# Altium footprint library ISS_PCB.PcbLib: 46 footprints (part 1 of 3)
Each footprint in its own frame and in the unit in brackets; x right, y up, seen from the top. Pads: shape width x height; smd on the part's side, far side on the other; paste and mask are expansions set on the pad; w line width, h text height; cw(c..) or ccw(c..) is an arc to the next point about the centre after c.
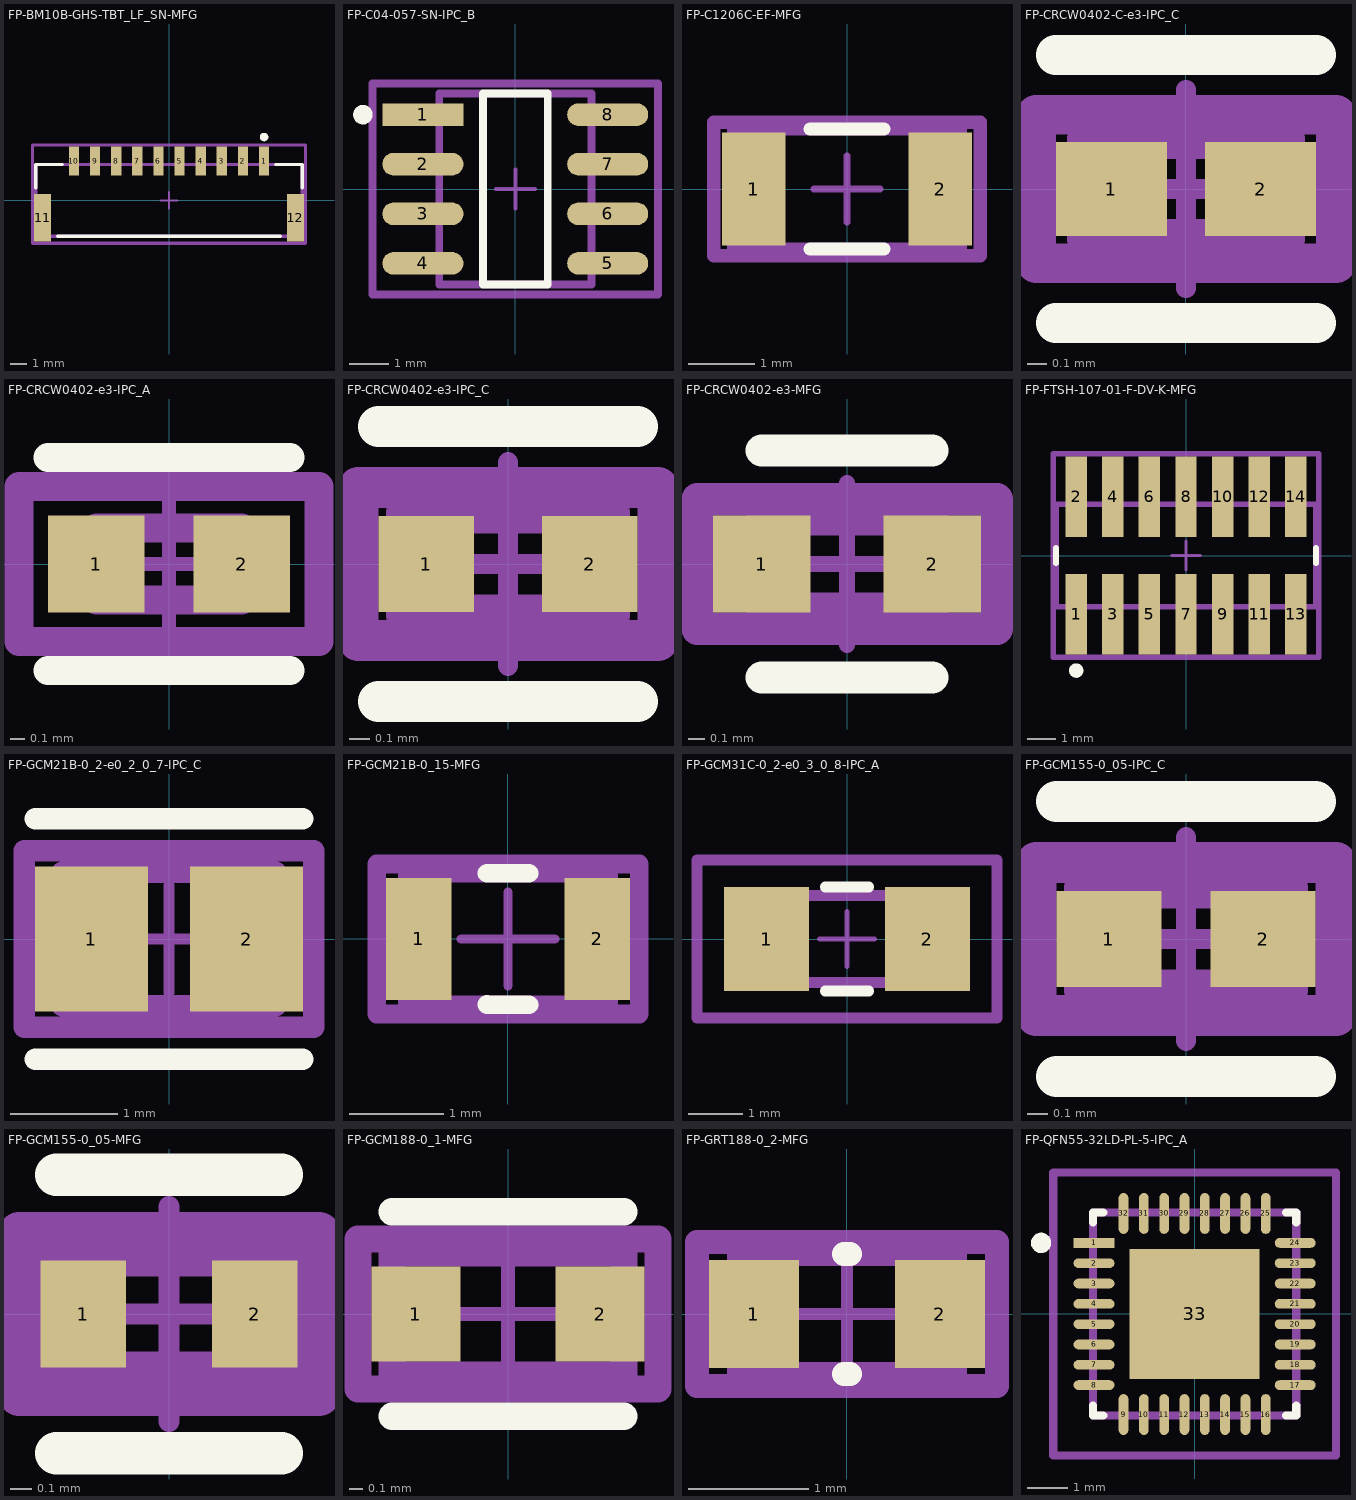
[diagram p0: the footprints below, top view; thin cyan lines are the x and y axes]

## FP-BM10B-GHS-TBT_LF_SN-MFG [mm]
pads (12):
  rect 0.6x1.7 smd paste+0 mask+0: 1(5.625,2.325) 2(4.375,2.325) 3(3.125,2.325) 4(1.875,2.325) 5(0.625,2.325) 6(-0.625,2.325) 7(-1.875,2.325) 8(-3.125,2.325) 9(-4.375,2.325) 10(-5.625,2.325)
  rect 1x2.8 smd paste+0 mask+0: 11(-7.475,-1.025) 12(7.475,-1.025)
Top Overlay:
  circle w0.25: c5.625,3.75 r0.125
  lines w0.2: -7.875,0.75 -7.875,2.125 -6.3,2.125 ; -6.6,-2.125 6.6,-2.125 ; 6.3,2.125 7.875,2.125 7.875,0.75
Top Courtyard:
  lines w0.2: -8.075,-2.525 -8.075,3.275 8.075,3.275 8.075,-2.525 -8.075,-2.525
Top Assembly:
  lines w0.2: -8.075,-2.525 -8.075,3.275 8.075,3.275 8.075,-2.525 -8.075,-2.525
  text ".Designator" at 0,0.563 h1
Top 3D Body:
  lines w0.2: -7.875,-2.125 -7.875,2.125 7.875,2.125 7.875,-2.125 -7.875,-2.125
Top Component Center:
  lines w0.1: -0.5,0 0.5,0 ; 0,-0.5 0,0.5
3D body "Conn_JST_BM10B-GHS-TBT_LF_SN_N_eec.STEP": height 0.25, standoff 0, extent -8.075,-2.525 8.075,3.275

## FP-C04-057-SN-IPC_B [mil]
pads (8):
  rect 81.77x22.92 smd paste+0 mask+0: 1(-93.21,75)
  rrect100% 81.77x22.92 smd paste+0 mask+0: 2(-93.21,25) 3(-93.21,-25) 4(-93.21,-75) 5(93.21,-75) 6(93.21,-25) 7(93.21,25) 8(93.21,75)
Top Overlay:
  circle w9.84: c-153.78,75 r4.92
  lines w7.87: -32.64,-96.46 -32.64,96.46 32.64,96.46 32.64,-96.46 -32.64,-96.46
Top Courtyard:
  lines w7.87: -143.94,-106.3 -143.94,106.3 143.94,106.3 143.94,-106.3 -143.94,-106.3
Top Assembly:
  lines w7.87: -143.94,-106.3 -143.94,106.3 143.94,106.3 143.94,-106.3 -143.94,-106.3
  text ".Designator" at 0,7.39 h39.37
Top 3D Body:
  lines w7.87: -76.77,-96.46 -76.77,96.46 76.77,96.46 76.77,-96.46 -76.77,-96.46
Top Component Center:
  lines w3.94: -19.69,0 19.69,0 ; 0,-19.69 0,19.69
3D body "IC_Microchip_24LC1025T-I-SN_eec.STEP": height 10, standoff 0, extent -143.94,-106.3 143.94,106.3

## FP-C1206C-EF-MFG [mm]
pads (2):
  rect 0.95x1.7 smd paste+0 mask+0: 1(-1.4,0) 2(1.4,0)
Top Overlay:
  lines w0.2: -0.55,-0.9 0.55,-0.9 ; -0.55,0.9 0.55,0.9
Top Courtyard:
  lines w0.2: -2,-1 2,-1 2,1 -2,1 -2,-1
Top Assembly:
  lines w0.2: -2,-1 2,-1 2,1 -2,1 -2,-1
  text ".Designator" at 0,0.188 h1
Top 3D Body:
  lines w0.2: -1.7,-0.9 1.7,-0.9 1.7,0.9 -1.7,0.9 -1.7,-0.9
Top Component Center:
  lines w0.1: -0.5,0 0.5,0 ; 0,-0.5 0,0.5
3D body "Cap_Kemet_C1206C102KGRACTU_eec.STEP": height 0.25, standoff 0, extent -2,-1 2,1

## FP-CRCW0402-C-e3-IPC_C [mm]
pads (2):
  rect 0.56x0.472 smd paste+0 mask+0: 1(-0.376,0) 2(0.376,0)
Top Overlay:
  lines w0.2: -0.656,-0.675 0.656,-0.675 ; -0.656,0.675 0.656,0.675
Top Courtyard:
  lines w0.2: -0.756,-0.375 0.756,-0.375 0.756,0.375 -0.756,0.375 -0.756,-0.375
Top Assembly:
  lines w0.2: -0.756,-0.375 0.756,-0.375 0.756,0.375 -0.756,0.375 -0.756,-0.375
  text ".Designator" at 0,0.188 h1
Top 3D Body:
  lines w0.2: -0.5,-0.25 0.5,-0.25 0.5,0.25 -0.5,0.25 -0.5,-0.25
Top Component Center:
  lines w0.1: -0.5,0 0.5,0 ; 0,-0.5 0,0.5
3D body "Res_Vishay_CRCW0402100KFKEDC_eec.STEP": height 0.25, standoff 0, extent -0.756,-0.375 0.756,0.375

## FP-CRCW0402-e3-IPC_A [mm]
pads (2):
  rect 0.668x0.672 smd paste+0 mask+0: 1(-0.502,0) 2(0.502,0)
Top Overlay:
  lines w0.2: -0.836,-0.736 0.836,-0.736 ; -0.836,0.736 0.836,0.736
Top Courtyard:
  lines w0.2: -1.036,-0.536 1.036,-0.536 1.036,0.536 -1.036,0.536 -1.036,-0.536
Top Assembly:
  lines w0.2: -1.036,-0.536 1.036,-0.536 1.036,0.536 -1.036,0.536 -1.036,-0.536
  text ".Designator" at 0,0.188 h1
Top 3D Body:
  lines w0.2: -0.5,-0.25 0.5,-0.25 0.5,0.25 -0.5,0.25 -0.5,-0.25
Top Component Center:
  lines w0.1: -0.5,0 0.5,0 ; 0,-0.5 0,0.5
3D body "Res_Vishay_CRCW04021K00FKED_eec.STEP": height 0.25, standoff 0, extent -1.036,-0.536 1.036,0.536

## FP-CRCW0402-e3-IPC_C [mm]
pads (2):
  rect 0.468x0.472 smd paste+0 mask+0: 1(-0.402,0) 2(0.402,0)
Top Overlay:
  lines w0.2: -0.636,-0.675 0.636,-0.675 ; -0.636,0.675 0.636,0.675
Top Courtyard:
  lines w0.2: -0.736,-0.375 0.736,-0.375 0.736,0.375 -0.736,0.375 -0.736,-0.375
Top Assembly:
  lines w0.2: -0.736,-0.375 0.736,-0.375 0.736,0.375 -0.736,0.375 -0.736,-0.375
  text ".Designator" at 0,0.188 h1
Top 3D Body:
  lines w0.2: -0.5,-0.25 0.5,-0.25 0.5,0.25 -0.5,0.25 -0.5,-0.25
Top Component Center:
  lines w0.1: -0.5,0 0.5,0 ; 0,-0.5 0,0.5
3D body "Res_Vishay_CRCW04021K00FKED_eec.STEP": height 0.25, standoff 0, extent -0.736,-0.375 0.736,0.375

## FP-CRCW0402-e3-MFG [mm]
pads (2):
  rect 0.6x0.6 smd paste+0 mask+0: 1(-0.525,0) 2(0.525,0)
Top Overlay:
  lines w0.2: -0.525,-0.7 0.525,-0.7 ; -0.525,0.7 0.525,0.7
Top Courtyard:
  lines w0.2: -0.925,-0.4 0.925,-0.4 0.925,0.4 -0.925,0.4 -0.925,-0.4
Top Assembly:
  lines w0.2: -0.925,-0.4 0.925,-0.4 0.925,0.4 -0.925,0.4 -0.925,-0.4
  text ".Designator" at 0,0.188 h1
Top 3D Body:
  lines w0.2: -0.525,-0.275 0.525,-0.275 0.525,0.275 -0.525,0.275 -0.525,-0.275
Top Component Center:
  lines w0.1: -0.5,0 0.5,0 ; 0,-0.5 0,0.5
3D body "Res_Vishay_CRCW04021K00FKED_eec.STEP": height 0.25, standoff 0, extent -0.925,-0.4 0.925,0.4

## FP-FTSH-107-01-F-DV-K-MFG [mm]
pads (14):
  rect 0.74x2.79 smd paste+0 mask+0: 1(-3.81,-2.035) 2(-3.81,2.035) 3(-2.54,-2.035) 4(-2.54,2.035) 5(-1.27,-2.035) 6(-1.27,2.035) 7(0,-2.035) 8(0,2.035) 9(1.27,-2.035) 10(1.27,2.035) 11(2.54,-2.035) 12(2.54,2.035) 13(3.81,-2.035) 14(3.81,2.035)
Top Overlay:
  circle w0.25: c-3.81,-3.99 r0.125
  lines w0.2: -4.51,-0.265 -4.51,0.265 ; 4.51,-0.265 4.51,0.265
Top Courtyard:
  lines w0.2: -4.61,-3.53 -4.61,3.53 4.61,3.53 4.61,-3.53 -4.61,-3.53
Top Assembly:
  lines w0.2: -4.61,-3.53 -4.61,3.53 4.61,3.53 4.61,-3.53 -4.61,-3.53
  text ".Designator" at 0,0.188 h1
Top 3D Body:
  lines w0.2: -4.51,-1.78 -4.51,1.78 4.51,1.78 4.51,-1.78 -4.51,-1.78
Top Component Center:
  lines w0.1: -0.5,0 0.5,0 ; 0,-0.5 0,0.5
3D body "Conn_Samtec_FTSH-107-01-F-DV-K_eec.STEP": height 0.25, standoff 0, extent -4.61,-3.53 4.61,3.53

## FP-GCM21B-0_2-e0_2_0_7-IPC_C [mm]
pads (2):
  rect 1.055x1.356 smd paste+0 mask+0: 1(-0.726,0) 2(0.726,0)
Top Overlay:
  lines w0.2: -1.253,-1.125 1.253,-1.125 ; -1.253,1.125 1.253,1.125
Top Courtyard:
  lines w0.2: -1.353,-0.825 -1.353,0.825 1.353,0.825 1.353,-0.825 -1.353,-0.825
Top Assembly:
  lines w0.2: -1.353,-0.825 -1.353,0.825 1.353,0.825 1.353,-0.825 -1.353,-0.825
  text ".Designator" at 0,0.188 h1
Top 3D Body:
  lines w0.2: -1,-0.625 -1,0.625 1,0.625 1,-0.625 -1,-0.625
Top Component Center:
  lines w0.1: -0.5,0 0.5,0 ; 0,-0.5 0,0.5
3D body "Cap_Murata_GCM21BM8EE106KE08K_eec.STEP": height 0.25, standoff 0, extent -1.353,-0.825 1.353,0.825

## FP-GCM21B-0_15-MFG [mm]
pads (2):
  rect 0.7x1.3 smd paste+0 mask+0: 1(-0.95,0) 2(0.95,0)
Top Overlay:
  lines w0.2: -0.225,-0.7 0.225,-0.7 ; -0.225,0.7 0.225,0.7
Top Courtyard:
  lines w0.2: -1.4,-0.8 1.4,-0.8 1.4,0.8 -1.4,0.8 -1.4,-0.8
Top Assembly:
  lines w0.2: -1.4,-0.8 1.4,-0.8 1.4,0.8 -1.4,0.8 -1.4,-0.8
  text ".Designator" at 0,0.188 h1
Top 3D Body:
  lines w0.2: -1.075,-0.7 1.075,-0.7 1.075,0.7 -1.075,0.7 -1.075,-0.7
Top Component Center:
  lines w0.1: -0.5,0 0.5,0 ; 0,-0.5 0,0.5
3D body "Cap_Murata_GCM21BR72A104KA37L_eec.STEP": height 0.25, standoff 0, extent -1.4,-0.8 1.4,0.8

## FP-GCM31C-0_2-e0_3_0_8-IPC_A [mm]
pads (2):
  rect 1.555x1.906 smd paste+0 mask+0: 1(-1.476,0) 2(1.476,0)
Top Overlay:
  lines w0.2: -0.398,-0.953 0.398,-0.953 ; -0.398,0.953 0.398,0.953
Top Courtyard:
  lines w0.2: -2.753,-1.453 -2.753,1.453 2.753,1.453 2.753,-1.453 -2.753,-1.453
Top Assembly:
  lines w0.2: -2.753,-1.453 -2.753,1.453 2.753,1.453 2.753,-1.453 -2.753,-1.453
  text ".Designator" at 0,0.188 h1
Top 3D Body:
  lines w0.2: -1.6,-0.8 -1.6,0.8 1.6,0.8 1.6,-0.8 -1.6,-0.8
Top Component Center:
  lines w0.1: -0.5,0 0.5,0 ; 0,-0.5 0,0.5
3D body "Cap_Murata_GCM31C5C1H104JA16L_eec.STEP": height 0.25, standoff 0, extent -2.753,-1.453 2.753,1.453

## FP-GCM155-0_05-IPC_C [mm]
pads (2):
  rect 0.515x0.472 smd paste+0 mask+0: 1(-0.379,0) 2(0.379,0)
Top Overlay:
  lines w0.2: -0.636,-0.675 0.636,-0.675 ; -0.636,0.675 0.636,0.675
Top Courtyard:
  lines w0.2: -0.736,-0.375 0.736,-0.375 0.736,0.375 -0.736,0.375 -0.736,-0.375
Top Assembly:
  lines w0.2: -0.736,-0.375 0.736,-0.375 0.736,0.375 -0.736,0.375 -0.736,-0.375
  text ".Designator" at 0,0.188 h1
Top 3D Body:
  lines w0.2: -0.5,-0.25 0.5,-0.25 0.5,0.25 -0.5,0.25 -0.5,-0.25
Top Component Center:
  lines w0.1: -0.5,0 0.5,0 ; 0,-0.5 0,0.5
3D body "Cap_Murata_GCM155R71H271KA37D_eec.STEP": height 0.25, standoff 0, extent -0.736,-0.375 0.736,0.375

## FP-GCM155-0_05-MFG [mm]
pads (2):
  rect 0.4x0.5 smd paste+0 mask+0: 1(-0.4,0) 2(0.4,0)
Top Overlay:
  lines w0.2: -0.525,-0.65 0.525,-0.65 ; -0.525,0.65 0.525,0.65
Top Courtyard:
  lines w0.2: -0.7,-0.375 0.7,-0.375 0.7,0.375 -0.7,0.375 -0.7,-0.375
Top Assembly:
  lines w0.2: -0.7,-0.375 0.7,-0.375 0.7,0.375 -0.7,0.375 -0.7,-0.375
  text ".Designator" at 0,0.188 h1
Top 3D Body:
  lines w0.2: -0.525,-0.275 0.525,-0.275 0.525,0.275 -0.525,0.275 -0.525,-0.275
Top Component Center:
  lines w0.1: -0.5,0 0.5,0 ; 0,-0.5 0,0.5
3D body "Cap_Murata_GCM155R71H271KA37D_eec.STEP": height 0.25, standoff 0, extent -0.7,-0.375 0.7,0.375

## FP-GCM188-0_1-MFG [mm]
pads (2):
  rect 0.65x0.7 smd paste+0 mask+0: 1(-0.675,0) 2(0.675,0)
Top Overlay:
  lines w0.2: -0.85,-0.75 0.85,-0.75 ; -0.85,0.75 0.85,0.75
Top Courtyard:
  lines w0.2: -1.1,-0.55 1.1,-0.55 1.1,0.55 -1.1,0.55 -1.1,-0.55
Top Assembly:
  lines w0.2: -1.1,-0.55 1.1,-0.55 1.1,0.55 -1.1,0.55 -1.1,-0.55
  text ".Designator" at 0,0.188 h1
Top 3D Body:
  lines w0.2: -0.85,-0.45 0.85,-0.45 0.85,0.45 -0.85,0.45 -0.85,-0.45
Top Component Center:
  lines w0.1: -0.5,0 0.5,0 ; 0,-0.5 0,0.5
3D body "Cap_Murata_GCM188R71E105KA64D_eec.STEP": height 0.25, standoff 0, extent -1.1,-0.55 1.1,0.55

## FP-GRT188-0_2-MFG [mm]
pads (2):
  rect 0.75x0.9 smd paste+0 mask+0: 1(-0.775,0) 2(0.775,0)
Top Overlay:
  lines w0.2: -0.025,-0.5 0.025,-0.5 ; -0.025,0.5 0.025,0.5
Top Courtyard:
  lines w0.2: -1.25,-0.6 1.25,-0.6 1.25,0.6 -1.25,0.6 -1.25,-0.6
Top Assembly:
  lines w0.2: -1.25,-0.6 1.25,-0.6 1.25,0.6 -1.25,0.6 -1.25,-0.6
  text ".Designator" at 0,0.188 h1
Top 3D Body:
  lines w0.2: -0.9,-0.5 0.9,-0.5 0.9,0.5 -0.9,0.5 -0.9,-0.5
Top Component Center:
  lines w0.1: -0.5,0 0.5,0 ; 0,-0.5 0,0.5
3D body "Cap_Murata_GRT188R61H225KE13D_eec.STEP": height 0.25, standoff 0, extent -1.25,-0.6 1.25,0.6

## FP-QFN55-32LD-PL-5-IPC_A [mm]
pads (33):
  rect 1.008x0.239 smd paste+0 mask+0: 1(-2.475,1.75)
  rrect100% 1.008x0.239 smd paste+0 mask+0: 2(-2.475,1.25) 3(-2.475,0.75) 4(-2.475,0.25) 5(-2.475,-0.25) 6(-2.475,-0.75) 7(-2.475,-1.25) 8(-2.475,-1.75) 17(2.475,-1.75) 18(2.475,-1.25) 19(2.475,-0.75) 20(2.475,-0.25) 21(2.475,0.25) 22(2.475,0.75) 23(2.475,1.25) 24(2.475,1.75)
  rrect100% 0.239x1.008 smd paste+0 mask+0: 9(-1.75,-2.475) 10(-1.25,-2.475) 11(-0.75,-2.475) 12(-0.25,-2.475) 13(0.25,-2.475) 14(0.75,-2.475) 15(1.25,-2.475) 16(1.75,-2.475) 25(1.75,2.475) 26(1.25,2.475) 27(0.75,2.475) 28(0.25,2.475) 29(-0.25,2.475) 30(-0.75,2.475) 31(-1.25,2.475) 32(-1.75,2.475)
  rect 3.2x3.2 smd paste-1000 mask+0: 33(0,0)
Top Overlay:
  circle w0.25: c-3.779,1.75 r0.125
  lines w0.2: -2.5,-2.25 -2.5,-2.5 -2.25,-2.5 ; -2.5,2.25 -2.5,2.5 -2.25,2.5 ; 2.25,-2.5 2.5,-2.5 2.5,-2.25 ; 2.25,2.5 2.5,2.5 2.5,2.25
Top Paste:
  rectangle: -1.012,-1.012 1.012,1.012
Top Courtyard:
  lines w0.2: -3.479,-3.479 3.479,-3.479 3.479,3.479 -3.479,3.479 -3.479,-3.479
Top Assembly:
  lines w0.2: -3.479,-3.479 3.479,-3.479 3.479,3.479 -3.479,3.479 -3.479,-3.479
  text ".Designator" at 0,0.188 h1
Top 3D Body:
  lines w0.2: -2.5,-2.5 2.5,-2.5 2.5,2.5 -2.5,2.5 -2.5,-2.5
Top Component Center:
  lines w0.1: -0.5,0 0.5,0 ; 0,-0.5 0,0.5
3D body "IC_Microchip_KSZ8081MNXCA-TR_eec.STEP": height 0.25, standoff 0, extent -3.479,-3.479 3.479,3.479